# Altium footprint library RESM17073X710N.PcbLib: 1 footprints
Each footprint in its own frame and in the unit in brackets; x right, y up, seen from the top. Pads: shape width x height; smd on the part's side, far side on the other; paste and mask are expansions set on the pad; w line width, h text height; cw(c..) or ccw(c..) is an arc to the next point about the centre after c.
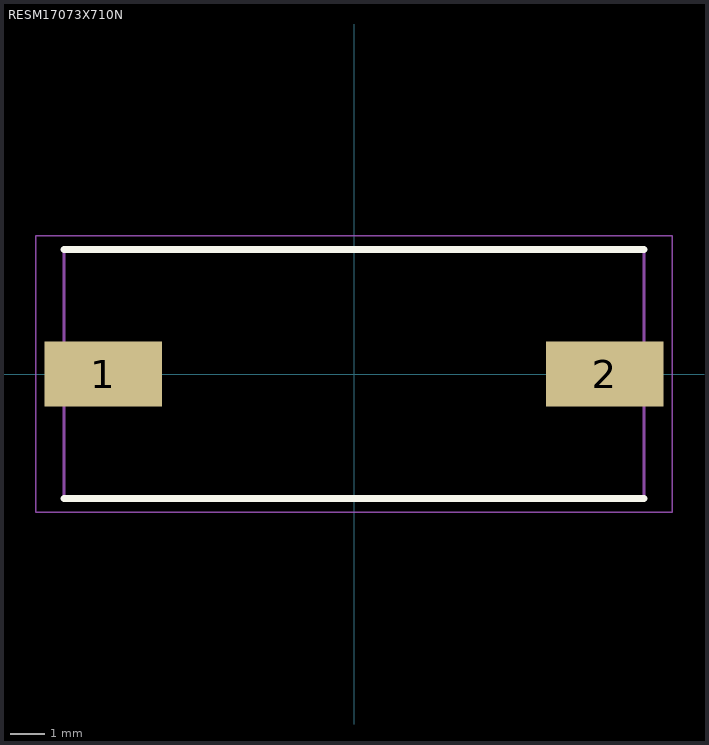
[diagram p0: the footprint, top view; thin cyan lines are the x and y axes]

## RESM17073X710N [mm]
pads (2):
  rect 3.45x1.9 smd: 1(-7.35,0) 2(7.35,0)
Top Overlay:
  lines w0.2: -8.5,-3.65 8.5,-3.65 ; -8.5,3.65 8.5,3.65
Mechanical 15:
  lines w0.1: -8.5,-3.65 8.5,-3.65 8.5,3.65 -8.5,3.65 -8.5,-3.65
Mechanical 20:
  lines w0.05: -9.325,-4.05 9.325,-4.05 9.325,4.05 -9.325,4.05 -9.325,-4.05